# EAGLE library part CSRA64215 (library SureDSP)
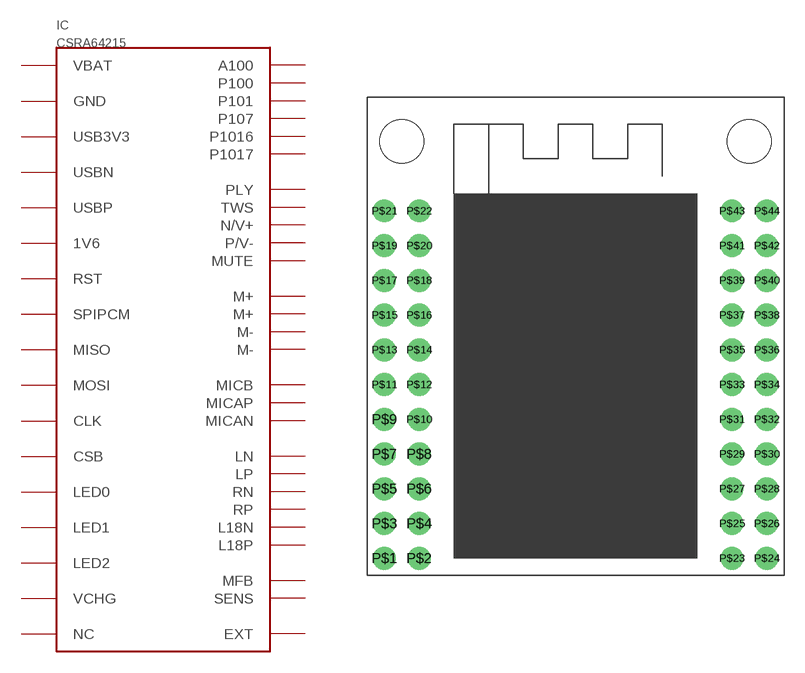
[diagram p6: symbol with the pads of CSRA64215; footprint CSRA64215]

Designator prefix IC

## CSRA64215  [CSRA64215]
P$1  VCHG
P$2  USBN
P$3  SENS
P$4  EXT
P$5  VBAT
P$6  GND
P$7  MISO
P$8  RST
P$9  CLK
P$10  CSB
P$11  SPIPCM
P$12  MOSI
P$13  PLY
P$14  TWS
P$15  P/V-
P$16  N/V+
P$17  MUTE
P$18  P107
P$19  M-
P$20  M+
P$21  M-
P$22  M+
P$23  USBP
P$24  A100
P$25  P101
P$26  P100
P$27  MFB
P$28  1V6
P$29  LED0
P$30  LED1
P$31  LED2
P$32  MICAN
P$33  MICAP
P$34  MICB
P$35  L18N
P$36  L18P
P$37  RN
P$38  RP
P$39  LN
P$40  LP
P$41  P1016
P$42  P1017
P$43  NC
P$44  USB3V3

## Footprint CSRA64215 (pad centres in mm)
drill 1 pad 1.676: P$1 0,0; P$2 2.54,0; P$3 0,2.54; P$4 2.54,2.54; P$5 0,5.08; P$6 2.54,5.08; P$7 0,7.62; P$8 2.54,7.62; P$9 0,10.16; P$10 2.54,10.16; P$11 0,12.7; P$12 2.54,12.7; P$13 0,15.24; P$14 2.54,15.24; P$15 0,17.78; P$16 2.54,17.78; P$17 0,20.32; P$18 2.54,20.32; P$19 0,22.86; P$20 2.54,22.86; P$21 0,25.4; P$22 2.54,25.4; P$23 25.4,0; P$24 27.94,0; P$25 25.4,2.54; P$26 27.94,2.54; P$27 25.4,5.08; P$28 27.94,5.08; P$29 25.4,7.62; P$30 27.94,7.62; P$31 25.4,10.16; P$32 27.94,10.16; P$33 25.4,12.7; P$34 27.94,12.7; P$35 25.4,15.24; P$36 27.94,15.24; P$37 25.4,17.78; P$38 27.94,17.78; P$39 25.4,20.32; P$40 27.94,20.32; P$41 25.4,22.86; P$42 27.94,22.86; P$43 25.4,25.4; P$44 27.94,25.4
hole 3.2 at 1.27,30.48
hole 3.2 at 26.67,30.48